# Altium schematic symbol library Quad-Stage-Prototype.SCHLIB: 18 symbols
Pins are listed as number, name and electrical type; pins without a type are passive.

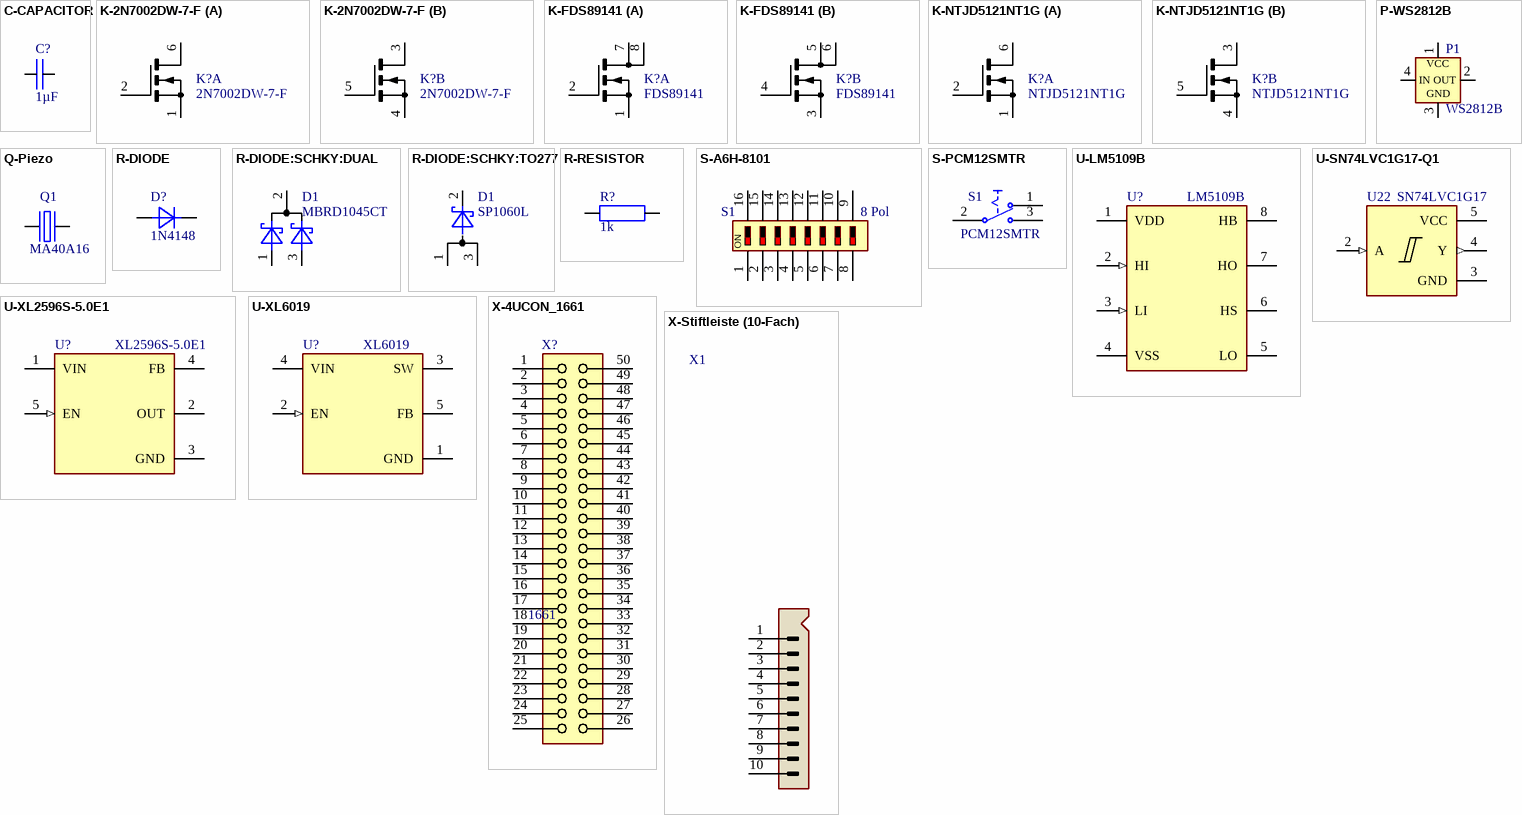
[diagram p0: symbols C-CAPACITOR to X-Stiftleiste (10-Fach)]

## C-CAPACITOR
designator C?, comment 1µF
CAP-MK; Beschreibung: Keramikvielschichtkondensator; Bauteilwert: 1µF 50V; Stückpreis: 0.01; Digikey: 1276-1860-1-ND; Farnell: 3013383; Mouser: 187-CL10A105KB8NNNC; JLC-Parts: C15849
footprint SMD Keramikkondensator 0603
pins: 1, 2
1 alternate drawing of the same symbol

## K-2N7002DW-7-F
designator K?, comment 2N7002DW-7-F
Dual N-Channel MOSFET; Stückpreis: 0.35; Bauteilwert: 2N7002DW-7-F; Beschreibung: Dual N-Channel MOSFET; Digikey: 2N7002DW-FDICT-ND; Mouser: 621-2N7002DW-F; ComponentLink1Description: Datasheet; ComponentLink1URL: https://datasheet.lcsc.com/lcsc/1810111020_Diodes-Incorporated-2N7002DW-7-F_C83571.pdf; JLC-Parts: C83571
part A pins: 1 S1, 2 G1, 6 D1
part B pins: 3 D2, 4 S2, 5 G2

## K-FDS89141
designator K?, comment FDS89141
Dual N-Channel MOSFET; Stückpreis: 1.90; Bauteilwert: FDS89141; Beschreibung: Dual N-Channel MOSFET; Digikey: FDS89141CT-ND; Farnell: 2083349; Mouser: 512-FDS89141; ComponentLink1Description: Datasheet; ComponentLink1URL: https://datasheet.lcsc.com/szlcsc/1810201610_Sinopower-Semicon-APM4953KC-TRG_C20897.pdf; JLC-Parts: C606116
footprint SMD IC SOIC-8
part A pins: 1 S1, 2 G1, 7 D1, 8 D1
part B pins: 3 S2, 4 G2, 5 D2, 6 D2

## K-NTJD5121NT1G
designator K?, comment NTJD5121NT1G
Dual N-Channel MOSFET; Stückpreis: 0.35; Bauteilwert: NTJD5121NT1G; Beschreibung: Dual N-Channel MOSFET; Digikey: NTJD5121NT1GOSCT-ND; Farnell: 3270923; Mouser: 863-NTJD5121NT1G; ComponentLink1Description: Datasheet; ComponentLink1URL: https://datasheet.lcsc.com/lcsc/1809111521_onsemi-NTJD5121NT1G_C15215.pdfhttps://datasheet.lcsc.com/lcsc/1809111521_onsemi-NTJD5121NT1G_C15215.pdf; JLC-Parts: C606116
part A pins: 1 S1, 2 G1, 6 D1
part B pins: 3 D2, 4 S2, 5 G2

## P-WS2812B
designator P1, comment WS2812B
Smart RGB-LED; aliExpress: 32550663121; Stückpreis: 0.10; Beschreibung: Smart RGB-LED; Bauteilwert: WS2812B; Digikey: 1568-COM-16346-ND; Mouser: 474-COM-16346; JLC-Parts: C2843785; ComponentLink1Description: Datasheet; ComponentLink1URL: http://cdn.sparkfun.com/datasheets/BreakoutBoards/WS2812B.pdf
pins: 1 VCC (power), 2 OUT (power), 3 GND (power), 4 IN (power)

## Q-Piezo
designator Q1, comment MA40A16
Ultrasonic Transducer; Bauteilwert: MA40A16 (40kHz, 16mm); aliExpress: 32890177031; Stückpreis: 0.17; Beschreibung: Ultrasonic Transducer; JLC-Parts: C115962; ComponentLink1Description: Datasheet
pins: 1, 2

## R-DIODE
designator D?, comment 1N4148
DIODE (alt V); Beschreibung: Kleinsignal-Diode; Bauteilwert: 1N4148WS-7-F; Stückpreis: 0.14; Digikey: 1N4148WSFSCT-ND; Farnell: 2453269; Mouser: 621-1N4148WSF-7
footprint SMD Diode DO-213-AA (SM LED; 2 Flat Leads)
pins: A, K
2 alternate drawings of the same symbol

## R-DIODE:SCHKY:DUAL
designator D1, comment MBRD1045CT
Low Voltage Schottky-Diode; Beschreibung: Low Voltage Schottky-Diode; Bauteilwert: MBRD1045CT; Unit Price: 0.10; Mouser: 833-MBRD1045C-TP; Digikey: 1655-MBRD1045CTTRCT-ND; JLC-Parts: C2891315; ComponentLink2Description: Datasheet; ComponentLink2URL: https://datasheet.lcsc.com/lcsc/2109031130_GOODWORK-MBRD1045CT_C2891315.pdf
footprint SMD Diode SOD-123 (SM LED; 2 Flat Leads)
pins: 1 A, 2 K, 3 A

## R-DIODE:SCHKY:TO277
designator D1, comment SP1060L
Low Voltage Schottky-Diode; Beschreibung: Low Voltage Schottky-Diode; Bauteilwert: SP1060L; Unit Price: 0.32; JLC-Parts: C2693399; ComponentLink2Description: Datasheet; ComponentLink2URL: https://datasheet.lcsc.com/lcsc/2103051837_Changjiang-Electronics-Tech--CJ-SP1060L_C2693399.pdf
footprint SMD Diode SOD-123 (SM LED; 2 Flat Leads)
pins: 1 A, 2 K, 3 A

## R-RESISTOR
designator R?, comment 1k
RES (E=Heizwiderstand B=Messwandler); Beschreibung: Dickschicht Chipwiderstand; Bauteilwert: 1k (75V, 100mW, 1%); Stückpreis: 0.01; Digikey: P1.00KHCT-ND; Farnell: 2303145; Mouser: 667-ERJ-3EKF1001V; JLC-Parts: C21190
footprint SMD Widerstand 0603
pins: 1, 2
1 alternate drawing of the same symbol

## S-A6H-8101
designator S1, comment 8 Pol
DIP-Switch 8 Positions; Component Value: A6H-8101; Digikey: SW1118-ND; Farnell: 8774277; Mouser: 653-A6H-8101; JLC-Parts: C89711; Component Description: DIP-Switch 8 Positions; Unit Price: 2.92
footprint SMD DIP-Switch 8-Pos
pins: 1, 2, 3, 4, 5, 6, 7, 8, 9, 10, 11, 12, 13, 14, 15, 16
2 alternate drawings of the same symbol
text: ON

## S-PCM12SMTR
designator S1, comment PCM12SMTR
Miniature Slide Switch; Stückpreis: 0.77; Bauteilwert: PCM12SMTR (SPDT); aliExpress: 33002042977; Digikey: 401-2016-1-ND; Beschreibung: Miniature Slide Switch; Mouser: 611-PCM12SMTR; Farnell: 9575146
footprint SMD Switch SPDT (PCM12SMTR)
pins: 1 NC1, 2 COMMON1, 3 NO1

## U-LM5109B
designator U?, comment LM5109B
High Voltage 1A Peak Half Bridge Gate Driver; Component Description: High Voltage Gate Driver; ComponentLink1Description: Datasheet; ComponentLink1URL: https://datasheet.lcsc.com/lcsc/1809172040_Texas-Instruments-LM5109AMAX-NOPB_C129332.pdf; Digikey: LM5109BMA/NOPB-ND; Component Value: LM5109B; Farnell: 3005776; JLC-Parts: C129332; Mouser: 926-LM5109BMAX/NOPB; Unit Price: 1.13
footprint SMD IC SOIC-8
pins: 1 VDD (power), 2 HI (in), 3 LI (in), 4 VSS (power), 5 LO, 6 HS, 7 HO, 8 HB

## U-SN74LVC1G17-Q1
designator U22, comment SN74LVC1G17
Single Schmitt-Trigger Buffer; Component Value: SN74LVC1G17-Q1; Digikey: 296-23709-1-ND; Farnell: 2499832; Mouser: 595-74LVC1G17QDCKRQ1; Component Description: Single Schmitt-Trigger Buffer; ComponentLink1Description: Datasheet; ComponentLink1URL: https://datasheet.lcsc.com/lcsc/1809192011_Texas-Instruments-SN74LVC1G17DCKR_C10425.pdf; JLC-Parts: C10425; Unit Price: 0.36
footprint SMD IC SOT-353 (SC-70-5)
pins: 1 NC hidden, 2 A (in), 3 GND (power), 4 Y (out), 5 VCC (power)

## U-XL2596S-5.0E1
designator U?, comment XL2596S-5.0E1
High Power Switching Buck Converter; ComponentLink1Description: Datasheet; ComponentLink1URL: https://datasheet.lcsc.com/lcsc/1811021340_XLSEMI-XL2596S-5-0E1_C74190.pdf; Component Value: XL2596S-5.0E1; JLC-Parts: C74190; Unit Price: 0.58; Component Description: High Power Switching Buck Converter
pins: 1 VIN (power), 2 OUT, 3 GND (power), 4 FB, 5 EN (in)

## U-XL6019
designator U?, comment XL6019
High Power Switching Boost Converter; ComponentLink1Description: Datasheet; ComponentLink1URL: http://www.xlsemi.com/datasheet/XL6019%20datasheet-English.pdf; Component Value: XL6019; JLC-Parts: C73018; Unit Price: 1.00; Component Description: High Power Switching Boost Converter
pins: 1 GND (power), 2 EN (in), 3 SW, 4 VIN (power), 5 FB

## X-4UCON_1661
designator X?, comment 1661
Board-to-Board Connector (Receptacle); Bauteilwert: PRT-16890 (1661); Stückpreis: 1.60; Beschreibung: Board-to-Board Connector (Receptacle); Digikey: 1568-PRT-16890-ND; Mouser: 474-PRT-16890; ComponentLink1Description: Datasheet; ComponentLink1URL: http://www.4uconnector.com/online/object/4udrawing/19008.pdf
footprint SMD Connector (DF40GB-26DS-0.4V) (SMD_LED_RED)
pins: 1, 2, 3, 4, 5, 6, 7, 8, 9, 10, 11, 12, 13, 14, 15, 16, 17, 18, 19, 20, 21, 22, 23, 24, 25, 26, 27, 28, 29, 30, 31, 32, 33, 34, 35, 36, 37, 38, 39, 40, 41, 42, 43, 44, 45, 46, 47, 48, 49, 50

## X-Stiftleiste (10-Fach)
designator X1, comment Stiftleiste (10-Fach)  (value not drawn)
Beschreibung: Pin Header; Bauteilwert: 10-Pol; Stückpreis: 0.55; Digikey: 952-2250-ND; Farnell: 3756366; Mouser: 855-M20-9961045
pins: 1, 2, 3, 4, 5, 6, 7, 8, 9, 10